# Altium footprint library Capacitors SMD.PcbLib: 96 footprints (part 1 of 6)
Each footprint in its own frame and in the unit in brackets; x right, y up, seen from the top. Pads: shape width x height; smd on the part's side, far side on the other; paste and mask are expansions set on the pad; w line width, h text height; cw(c..) or ccw(c..) is an arc to the next point about the centre after c.
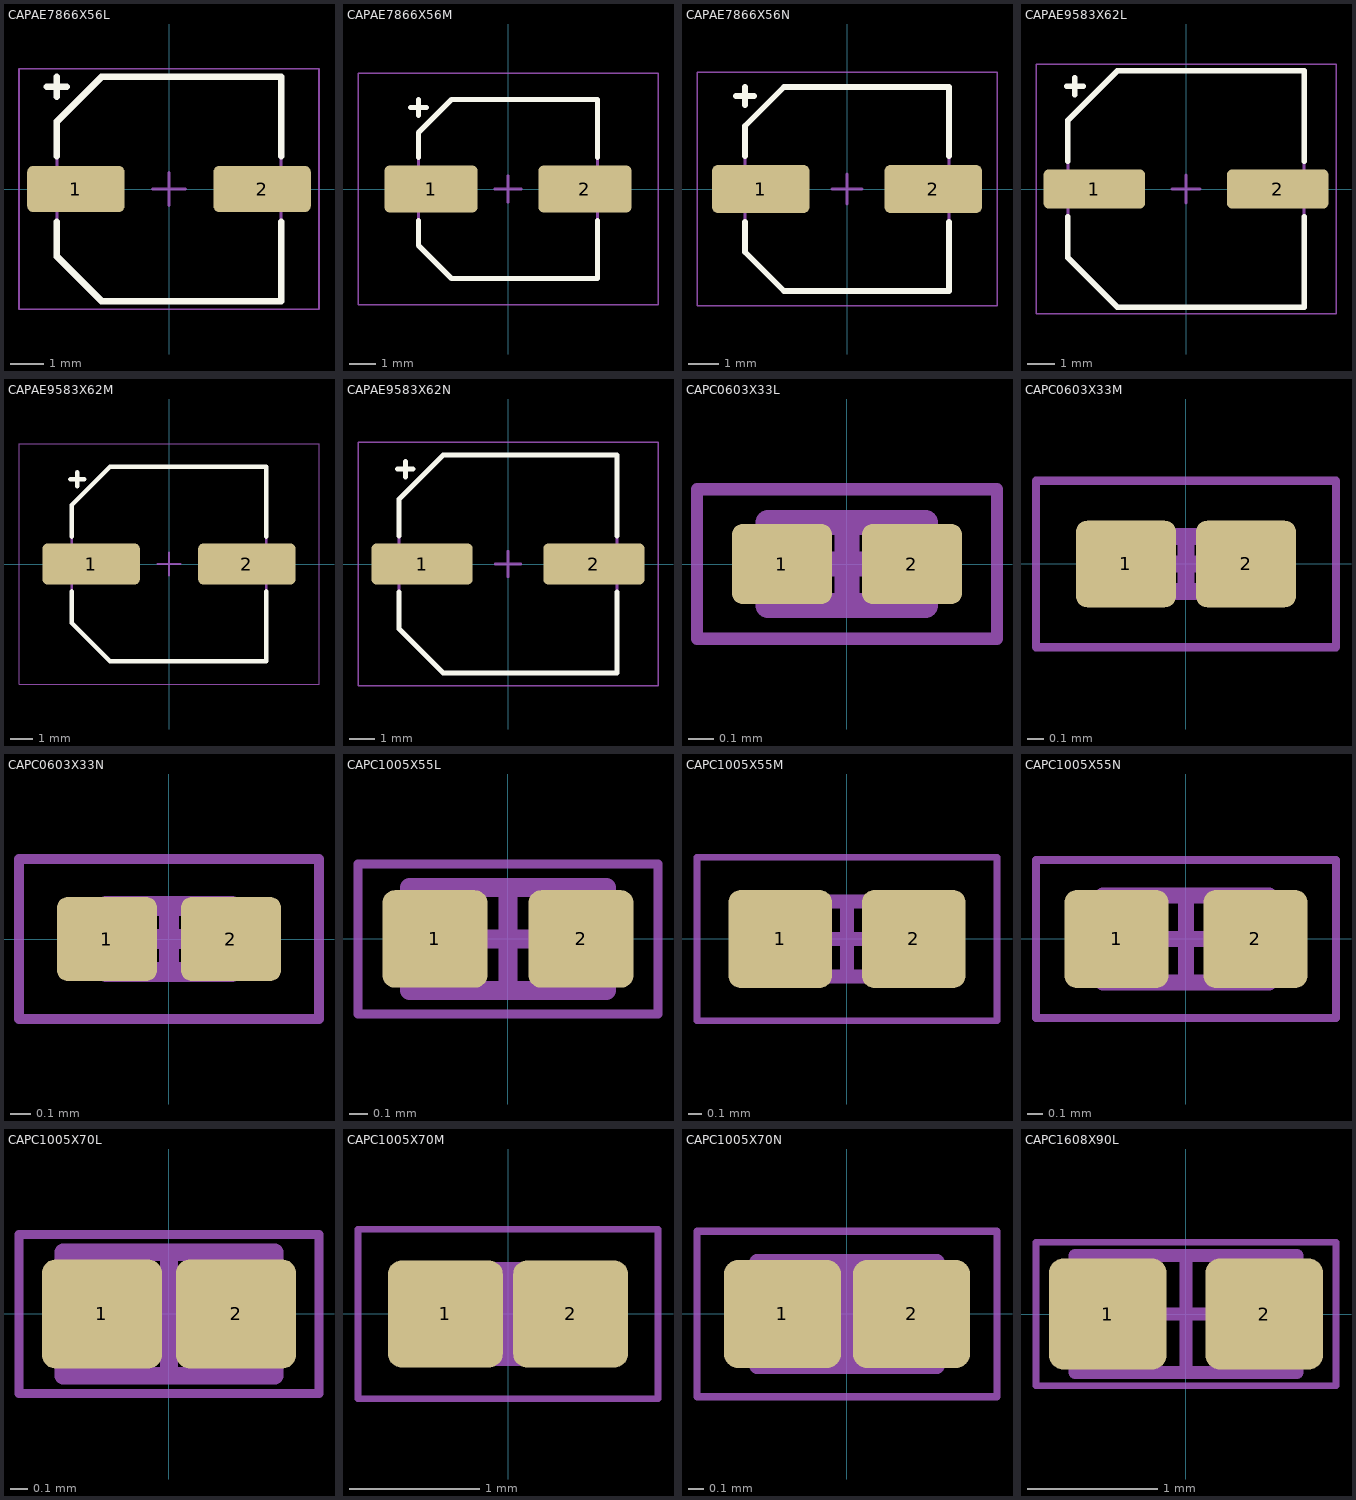
[diagram p0: the footprints below, top view; thin cyan lines are the x and y axes]

## CAPAE7866X56L [mm] "Aluminum Electrolytic Capacitor, Body 6.60x6.60x5.65mm, IPC High Density"
height 5.65
pads (2):
  rrect25% 2.95x1.4 smd paste+0 mask+0.05: 1(-2.825,0) 2(2.825,0)
Top Overlay:
  lines w0.2: -3.7,3.1 -3.1,3.1 ; -3.4,-1 -3.4,-2.05 -2.05,-3.4 3.4,-3.4 3.4,-1 ; -3.4,1 -3.4,2.05 -2.05,3.4 3.4,3.4 3.4,1 ; -3.4,2.8 -3.4,3.4
Top Component Outline:
  lines w0.1: -3.4,-2.1 -3.4,2.1 -2.1,3.4 3.4,3.4 3.4,-3.4 -2.1,-3.4 -3.4,-2.1
Top Courtyard:
  lines w0.05: -4.55,-3.65 -4.55,3.65 4.55,3.65 4.55,-3.65 -4.55,-3.65
Top Component Center:
  lines w0.1: -0.5,0 0.5,0 ; 0,-0.5 0,0.5
Top Designator:
  text ".Designator" at -4.04,-0.476 h2
Top Assembly:
  lines w0.1: -3.4,-2.05 -2.05,-3.4 3.4,-3.4 3.4,3.4 -2.05,3.4 -3.4,2.05 -3.4,-2.05
  text ".Designator" at -4.04,-0.476 h2
3D body "CAPAE_KEMET_EDK_CODE 9G.step": height 5.67, standoff 0.01, extent -3.8,-3.4 3.8,3.4

## CAPAE7866X56M [mm] "Aluminum Electrolytic Capacitor, Body 6.60x6.60x5.65mm, IPC Low Density"
height 5.65
pads (2):
  rrect25% 3.55x1.8 smd paste+0 mask+0.05: 1(-2.925,0) 2(2.925,0)
Top Overlay:
  lines w0.2: -3.7,3.1 -3.1,3.1 ; -3.4,-1.2 -3.4,-2.15 -2.15,-3.4 3.4,-3.4 3.4,-1.2 ; -3.4,1.2 -3.4,2.15 -2.15,3.4 3.4,3.4 3.4,1.2 ; -3.4,2.8 -3.4,3.4
Top Component Outline:
  lines w0.1: -3.4,-2.1 -2.1,-3.4 3.4,-3.4 3.4,3.4 -2.1,3.4 -3.4,2.1 -3.4,-2.1
Top Courtyard:
  lines w0.05: -5.7,-4.4 -5.7,4.4 5.7,4.4 5.7,-4.4 -5.7,-4.4
Top Component Center:
  lines w0.1: -0.5,0 0.5,0 ; 0,-0.5 0,0.5
Top Designator:
  text ".Designator" at -4.04,-0.476 h2
Top Assembly:
  lines w0.1: -3.4,-2.15 -2.15,-3.4 3.4,-3.4 3.4,3.4 -2.15,3.4 -3.4,2.15 -3.4,-2.15
  text ".Designator" at -4.04,-0.476 h2
3D body "CAPAE_KEMET_EDK_CODE 9G.step": height 5.67, standoff 0.01, extent -3.8,-3.4 3.8,3.4

## CAPAE7866X56N [mm] "Aluminum Electrolytic Capacitor, Body 6.60x6.60x5.65mm, IPC Medium Density"
height 5.65
pads (2):
  rrect25% 3.25x1.6 smd paste+0 mask+0.05: 1(-2.875,0) 2(2.875,0)
Top Overlay:
  lines w0.2: -3.7,3.1 -3.1,3.1 ; -3.4,-1.1 -3.4,-2.1 -2.1,-3.4 3.4,-3.4 3.4,-1.1 ; -3.4,1.1 -3.4,2.1 -2.1,3.4 3.4,3.4 3.4,1.1 ; -3.4,2.8 -3.4,3.4
Top Component Outline:
  lines w0.1: -3.4,-2.1 -2.1,-3.4 3.4,-3.4 3.4,3.4 -2.1,3.4 -3.4,2.1 -3.4,-2.1
Top Courtyard:
  lines w0.05: -5,-3.9 -5,3.9 5,3.9 5,-3.9 -5,-3.9
Top Component Center:
  lines w0.1: -0.5,0 0.5,0 ; 0,-0.5 0,0.5
Top Designator:
  text ".Designator" at -4.04,-0.476 h2
Top Assembly:
  lines w0.1: -3.4,-2.1 -2.1,-3.4 3.4,-3.4 3.4,3.4 -2.1,3.4 -3.4,2.1 -3.4,-2.1
  text ".Designator" at -4.04,-0.476 h2
3D body "CAPAE_KEMET_EDK_CODE 9G.step": height 5.67, standoff 0.01, extent -3.8,-3.4 3.8,3.4

## CAPAE9583X62L [mm] "Aluminum Electrolytic Capacitor, Body 8.30x8.30x6.20mm, IPC High Density"
height 6.2
pads (2):
  rrect25% 3.65x1.4 smd paste+0 mask+0.05: 1(-3.3,0) 2(3.3,0)
Top Overlay:
  lines w0.2: -4.3,3.7 -3.7,3.7 ; -4.25,-1 -4.25,-2.475 -2.475,-4.25 4.25,-4.25 4.25,-1 ; -4.25,1 -4.25,2.475 -2.475,4.25 4.25,4.25 4.25,1 ; -4,3.4 -4,4
Top Component Outline:
  lines w0.1: -4.25,-2.525 -2.525,-4.25 4.25,-4.25 4.25,4.25 -2.525,4.25 -4.25,2.525 -4.25,-2.525
Top Courtyard:
  lines w0.05: -5.4,-4.5 5.4,-4.5 5.4,4.5 -5.4,4.5 -5.4,-4.5
Top Component Center:
  lines w0.1: -0.5,0 0.5,0 ; 0,-0.5 0,0.5
Top Designator:
  text ".Designator" at -4.04,-0.476 h2
Top Assembly:
  lines w0.1: -4.25,-2.475 -4.25,2.475 -2.475,4.25 4.25,4.25 4.25,-4.25 -2.475,-4.25 -4.25,-2.475
  text ".Designator" at -4.04,-0.476 h2
3D body "CAPAE_PANASONIC_HA_CODE E.step": height 6.2, standoff 0, extent -4.5,-4.15 4.5,4.15

## CAPAE9583X62M [mm] "Aluminum Electrolytic Capacitor, Body 8.30x8.30x6.20mm, IPC Low Density"
height 6.2
pads (2):
  rrect25% 4.25x1.8 smd paste+0 mask+0.05: 1(-3.4,0) 2(3.4,0)
Top Overlay:
  lines w0.2: -4.3,3.7 -3.7,3.7 ; -4.25,-1.2 -4.25,-2.575 -2.575,-4.25 4.25,-4.25 4.25,-1.2 ; -4.25,1.2 -4.25,2.575 -2.575,4.25 4.25,4.25 4.25,1.2 ; -4,3.4 -4,4
Top Component Outline:
  lines w0.1: -4.25,-2.525 -2.525,-4.25 4.25,-4.25 4.25,4.25 -2.525,4.25 -4.25,2.525 -4.25,-2.525
Top Courtyard:
  lines w0.05: -6.55,-5.25 -6.55,5.25 6.55,5.25 6.55,-5.25 -6.55,-5.25
Top Component Center:
  lines w0.1: -0.5,0 0.5,0 ; 0,-0.5 0,0.5
Top Designator:
  text ".Designator" at -4.04,-0.476 h2
Top Assembly:
  lines w0.1: -4.25,-2.575 -2.575,-4.25 4.25,-4.25 4.25,4.25 -2.575,4.25 -4.25,2.575 -4.25,-2.575
  text ".Designator" at -4.04,-0.476 h2
3D body "CAPAE_PANASONIC_HA_CODE E.step": height 6.2, standoff 0, extent -4.5,-4.15 4.5,4.15

## CAPAE9583X62N [mm] "Aluminum Electrolytic Capacitor, Body 8.30x8.30x6.20mm, IPC Medium Density"
height 6.2
pads (2):
  rrect25% 3.95x1.6 smd paste+0 mask+0.05: 1(-3.35,0) 2(3.35,0)
Top Overlay:
  lines w0.2: -4.3,3.7 -3.7,3.7 ; -4.25,-1.1 -4.25,-2.525 -2.525,-4.25 4.25,-4.25 4.25,-1.1 ; -4.25,1.1 -4.25,2.525 -2.525,4.25 4.25,4.25 4.25,1.1 ; -4,3.4 -4,4
Top Component Outline:
  lines w0.1: -4.25,-2.525 -2.525,-4.25 4.25,-4.25 4.25,4.25 -2.525,4.25 -4.25,2.525 -4.25,-2.525
Top Courtyard:
  lines w0.05: -5.85,-4.75 -5.85,4.75 5.85,4.75 5.85,-4.75 -5.85,-4.75
Top Component Center:
  lines w0.1: -0.5,0 0.5,0 ; 0,-0.5 0,0.5
Top Designator:
  text ".Designator" at -4.04,-0.476 h2
Top Assembly:
  lines w0.1: -4.25,-2.525 -2.525,-4.25 4.25,-4.25 4.25,4.25 -2.525,4.25 -4.25,2.525 -4.25,-2.525
  text ".Designator" at -4.04,-0.476 h2
3D body "CAPAE_PANASONIC_HA_CODE E.step": height 6.2, standoff 0, extent -4.5,-4.15 4.5,4.15

## CAPC0603X33L [mm] "Chip Capacitor, EIA 0201, Metric 0603, Body 0.60x0.30mm, IPC High Density"
height 0.33
pads (2):
  rrect25% 0.4x0.32 smd paste+0 mask+0.05: 1(-0.26,0) 2(0.26,0)
Top Component Outline:
  lines w0.1: -0.315,-0.165 0.315,-0.165 0.315,0.165 -0.315,0.165 -0.315,-0.165
Top Courtyard:
  lines w0.05: -0.6,-0.3 0.6,-0.3 0.6,0.3 -0.6,0.3 -0.6,-0.3
Top Component Center:
  lines w0.1: -0.165,0 0.165,0 ; 0,-0.165 0,0.165
Top Designator:
  text ".Designator" at -4.04,-0.476 h2
Top Assembly:
  lines w0.1: -0.315,-0.165 0.315,-0.165 0.315,0.165 -0.315,0.165 -0.315,-0.165
  text ".Designator" at -4.04,-0.476 h2
3D body "CAPC0603X33N.step": height 0.33, standoff 0, extent -0.315,-0.165 0.315,0.165

## CAPC0603X33M [mm] "Chip Capacitor, EIA 0201, Metric 0603, Body 0.60x0.30mm, IPC Low Density"
height 0.33
pads (2):
  rrect25% 0.6x0.52 smd paste+0 mask+0.05: 1(-0.36,0) 2(0.36,0)
Top Component Outline:
  lines w0.1: -0.315,-0.165 -0.315,0.165 0.315,0.165 0.315,-0.165 -0.315,-0.165
Top Courtyard:
  lines w0.05: -0.9,-0.5 0.9,-0.5 0.9,0.5 -0.9,0.5 -0.9,-0.5
Top Component Center:
  lines w0.1: -0.165,0 0.165,0 ; 0,-0.165 0,0.165
Top Designator:
  text ".Designator" at -4.04,-0.476 h2
Top Assembly:
  lines w0.1: -0.315,-0.165 0.315,-0.165 0.315,0.165 -0.315,0.165 -0.315,-0.165
  text ".Designator" at -4.04,-0.476 h2
3D body "CAPC0603X33N.step": height 0.33, standoff 0, extent -0.315,-0.165 0.315,0.165

## CAPC0603X33N [mm] "Chip Capacitor, EIA 0201, Metric 0603, Body 0.60x0.30mm, IPC Medium Density"
height 0.33
pads (2):
  rrect25% 0.5x0.42 smd paste+0 mask+0.05: 1(-0.31,0) 2(0.31,0)
Top Component Outline:
  lines w0.1: -0.315,-0.165 0.315,-0.165 0.315,0.165 -0.315,0.165 -0.315,-0.165
Top Courtyard:
  lines w0.05: -0.75,-0.4 0.75,-0.4 0.75,0.4 -0.75,0.4 -0.75,-0.4
Top Component Center:
  lines w0.1: -0.165,0 0.165,0 ; 0,-0.165 0,0.165
Top Designator:
  text ".Designator" at -4.04,-0.476 h2
Top Assembly:
  lines w0.1: -0.315,-0.165 -0.315,0.165 0.315,0.165 0.315,-0.165 -0.315,-0.165
  text ".Designator" at -4.04,-0.476 h2
3D body "CAPC0603X33N.step": height 0.33, standoff 0, extent -0.315,-0.165 0.315,0.165

## CAPC1005X55L [mm] "Chip Capacitor, EIA 0402, Metric 1005, Body 1.00x0.50mm, IPC High Density"
height 0.55
pads (2):
  rrect25% 0.56x0.52 smd paste+0 mask+0.05: 1(-0.39,0) 2(0.39,0)
Top Component Outline:
  lines w0.1: -0.525,-0.275 -0.525,0.275 0.525,0.275 0.525,-0.275 -0.525,-0.275
Top Courtyard:
  lines w0.05: -0.8,-0.4 0.8,-0.4 0.8,0.4 -0.8,0.4 -0.8,-0.4
Top Component Center:
  lines w0.1: -0.275,0 0.275,0 ; 0,-0.275 0,0.275
Top Designator:
  text ".Designator" at -4.04,-0.476 h2
Top Assembly:
  lines w0.1: -0.525,-0.275 0.525,-0.275 0.525,0.275 -0.525,0.275 -0.525,-0.275
  text ".Designator" at -4.04,-0.476 h2
3D body "CAPC1005X55N.step": height 0.55, standoff 0, extent -0.525,-0.275 0.525,0.275

## CAPC1005X55M [mm] "Chip Capacitor, EIA 0402, Metric 1005, Body 1.00x0.50mm, IPC Low Density"
height 0.55
pads (2):
  rrect25% 0.76x0.72 smd paste+0 mask+0.05: 1(-0.49,0) 2(0.49,0)
Top Component Outline:
  lines w0.1: -0.525,-0.275 -0.525,0.275 0.525,0.275 0.525,-0.275 -0.525,-0.275
Top Courtyard:
  lines w0.05: -1.1,-0.6 -1.1,0.6 1.1,0.6 1.1,-0.6 -1.1,-0.6
Top Component Center:
  lines w0.1: -0.275,0 0.275,0 ; 0,-0.275 0,0.275
Top Designator:
  text ".Designator" at -4.04,-0.476 h2
Top Assembly:
  lines w0.1: -0.525,-0.275 -0.525,0.275 0.525,0.275 0.525,-0.275 -0.525,-0.275
  text ".Designator" at -4.04,-0.476 h2
3D body "CAPC1005X55N.step": height 0.55, standoff 0, extent -0.525,-0.275 0.525,0.275

## CAPC1005X55N [mm] "Chip Capacitor, EIA 0402, Metric 1005, Body 1.00x0.50mm, IPC Medium Density"
height 0.55
pads (2):
  rrect25% 0.66x0.62 smd paste+0 mask+0.05: 1(-0.44,0) 2(0.44,0)
Top Component Outline:
  lines w0.1: -0.525,-0.275 -0.525,0.275 0.525,0.275 0.525,-0.275 -0.525,-0.275
Top Courtyard:
  lines w0.05: -0.95,-0.5 -0.95,0.5 0.95,0.5 0.95,-0.5 -0.95,-0.5
Top Component Center:
  lines w0.1: -0.275,0 0.275,0 ; 0,-0.275 0,0.275
Top Designator:
  text ".Designator" at -4.04,-0.476 h2
Top Assembly:
  lines w0.1: -0.525,-0.275 -0.525,0.275 0.525,0.275 0.525,-0.275 -0.525,-0.275
  text ".Designator" at -4.04,-0.476 h2
3D body "CAPC1005X55N.step": height 0.55, standoff 0, extent -0.525,-0.275 0.525,0.275

## CAPC1005X70L [mm] "Chip Capacitor, EIA 0402, Metric 1005, Body 1.00x0.50mm, IPC High Density"
height 0.7
pads (2):
  rrect25% 0.68x0.62 smd paste+0 mask+0.05: 1(-0.38,0) 2(0.38,0)
Top Component Outline:
  lines w0.1: -0.6,-0.35 0.6,-0.35 0.6,0.35 -0.6,0.35 -0.6,-0.35
Top Courtyard:
  lines w0.05: -0.85,-0.45 0.85,-0.45 0.85,0.45 -0.85,0.45 -0.85,-0.45
Top Component Center:
  lines w0.1: -0.35,0 0.35,0 ; 0,-0.35 0,0.35
Top Designator:
  text ".Designator" at -4.04,-0.476 h2
Top Assembly:
  lines w0.1: -0.6,-0.35 0.6,-0.35 0.6,0.35 -0.6,0.35 -0.6,-0.35
  text ".Designator" at -4.04,-0.476 h2
3D body "CAPC1005X70N.step": height 0.7, standoff 0, extent -0.6,-0.35 0.6,0.35

## CAPC1005X70M [mm] "Chip Capacitor, EIA 0402, Metric 1005, Body 1.00x0.50mm, IPC Low Density"
height 0.7
pads (2):
  rrect25% 0.88x0.82 smd paste+0 mask+0.05: 1(-0.48,0) 2(0.48,0)
Top Component Outline:
  lines w0.1: -0.6,-0.35 0.6,-0.35 0.6,0.35 -0.6,0.35 -0.6,-0.35
Top Courtyard:
  lines w0.05: -1.15,-0.65 1.15,-0.65 1.15,0.65 -1.15,0.65 -1.15,-0.65
Top Component Center:
  lines w0.1: -0.35,0 0.35,0 ; 0,-0.35 0,0.35
Top Designator:
  text ".Designator" at -4.04,-0.476 h2
Top Assembly:
  lines w0.1: -0.6,-0.35 0.6,-0.35 0.6,0.35 -0.6,0.35 -0.6,-0.35
  text ".Designator" at -4.04,-0.476 h2
3D body "CAPC1005X70N.step": height 0.7, standoff 0, extent -0.6,-0.35 0.6,0.35

## CAPC1005X70N [mm] "Chip Capacitor, EIA 0402, Metric 1005, Body 1.00x0.50mm, IPC Medium Density"
height 0.7
pads (2):
  rrect25% 0.78x0.72 smd paste+0 mask+0.05: 1(-0.43,0) 2(0.43,0)
Top Component Outline:
  lines w0.1: -0.6,-0.35 -0.6,0.35 0.6,0.35 0.6,-0.35 -0.6,-0.35
Top Courtyard:
  lines w0.05: -1,-0.55 -1,0.55 1,0.55 1,-0.55 -1,-0.55
Top Component Center:
  lines w0.1: -0.35,0 0.35,0 ; 0,-0.35 0,0.35
Top Designator:
  text ".Designator" at -4.04,-0.476 h2
Top Assembly:
  lines w0.1: -0.6,-0.35 -0.6,0.35 0.6,0.35 0.6,-0.35 -0.6,-0.35
  text ".Designator" at -4.04,-0.476 h2
3D body "CAPC1005X70N.step": height 0.7, standoff 0, extent -0.6,-0.35 0.6,0.35

## CAPC1608X90L [mm] "Chip Capacitor, EIA 0603, Metric 1608, Body 1.60x0.80mm, IPC High Density"
height 0.9
pads (2):
  rrect25% 0.9x0.85 smd paste+0 mask+0.05: 1(-0.6,0) 2(0.6,0)
Top Component Outline:
  lines w0.1: -0.85,-0.45 -0.85,0.45 0.85,0.45 0.85,-0.45 -0.85,-0.45
Top Courtyard:
  lines w0.05: -1.15,-0.55 -1.15,0.55 1.15,0.55 1.15,-0.55 -1.15,-0.55
Top Component Center:
  lines w0.1: -0.45,0 0.45,0 ; 0,-0.45 0,0.45
Top Designator:
  text ".Designator" at -4.04,-0.476 h2
Top Assembly:
  lines w0.1: -0.85,-0.45 -0.85,0.45 0.85,0.45 0.85,-0.45 -0.85,-0.45
  text ".Designator" at -4.04,-0.476 h2
3D body "CAPC1608X90N.step": height 0.9, standoff 0, extent -0.85,-0.45 0.85,0.45